# Altium footprint library CONN1X2B.PcbLib: 1 footprints
Each footprint in its own frame and in the unit in brackets; x right, y up, seen from the top. Pads: shape width x height; smd on the part's side, far side on the other; paste and mask are expansions set on the pad; w line width, h text height; cw(c..) or ccw(c..) is an arc to the next point about the centre after c.
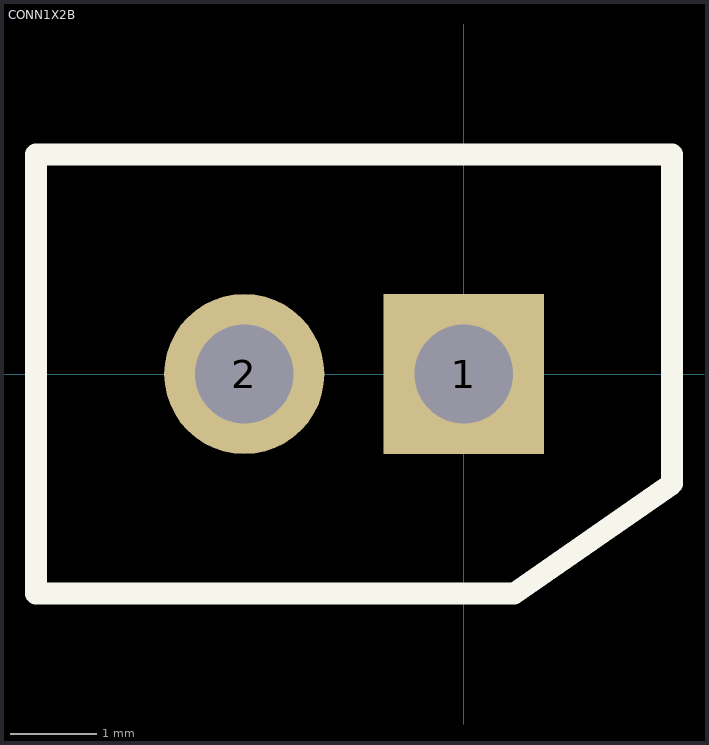
[diagram p0: the footprint, top view; thin cyan lines are the x and y axes]

## CONN1X2B [mil]
pads (2):
  rect 73x73 hole 45: 1(0,0)
  round 73 hole 45: 2(-100,0)
Top Overlay:
  lines w10: -195,-100 23,-100 95,-50 95,100 -195,100 -195,-100
  text "." at 80,-105 h50